# Altium schematic symbol library Horda ASG Logo.Schlib: 1 symbol
Pins are listed as number, name and electrical type; pins without a type are passive.

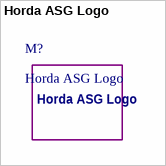
[diagram p0: symbol Horda ASG Logo]

## Horda ASG Logo
designator M?  (no BOM)